# Altium schematic symbol library 74LVC1G79GW_125.SchLib: 1 symbol
Pins are listed as number, name and electrical type; pins without a type are passive.

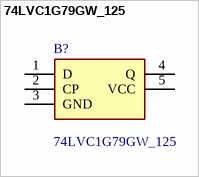
[diagram p0: symbol 74LVC1G79GW_125]

## 74LVC1G79GW_125
designator B?
74LVC1G79 - Single D-type flip-flop; positive-edge trigger@en-us; Manufacturer_Name: Nexperia; Manufacturer_Part_Number: 74LVC1G79GW,125; Geometry.Height: 1.1mm; element14 Part Number: *; element14 Price/Stock: *; Datasheet Link: https://assets.nexperia.com/documents/data-sheet/74LVC1G79.pdf
footprint SOT65P212X110-5N
pins: 1 D, 2 CP, 3 GND, 4 Q, 5 VCC